# Altium footprint library gamma_gestionkicker.PcbLib: 19 footprints (part 1 of 2)
Each footprint in its own frame and in the unit in brackets; x right, y up, seen from the top. Pads: shape width x height; smd on the part's side, far side on the other; paste and mask are expansions set on the pad; w line width, h text height; cw(c..) or ccw(c..) is an arc to the next point about the centre after c.
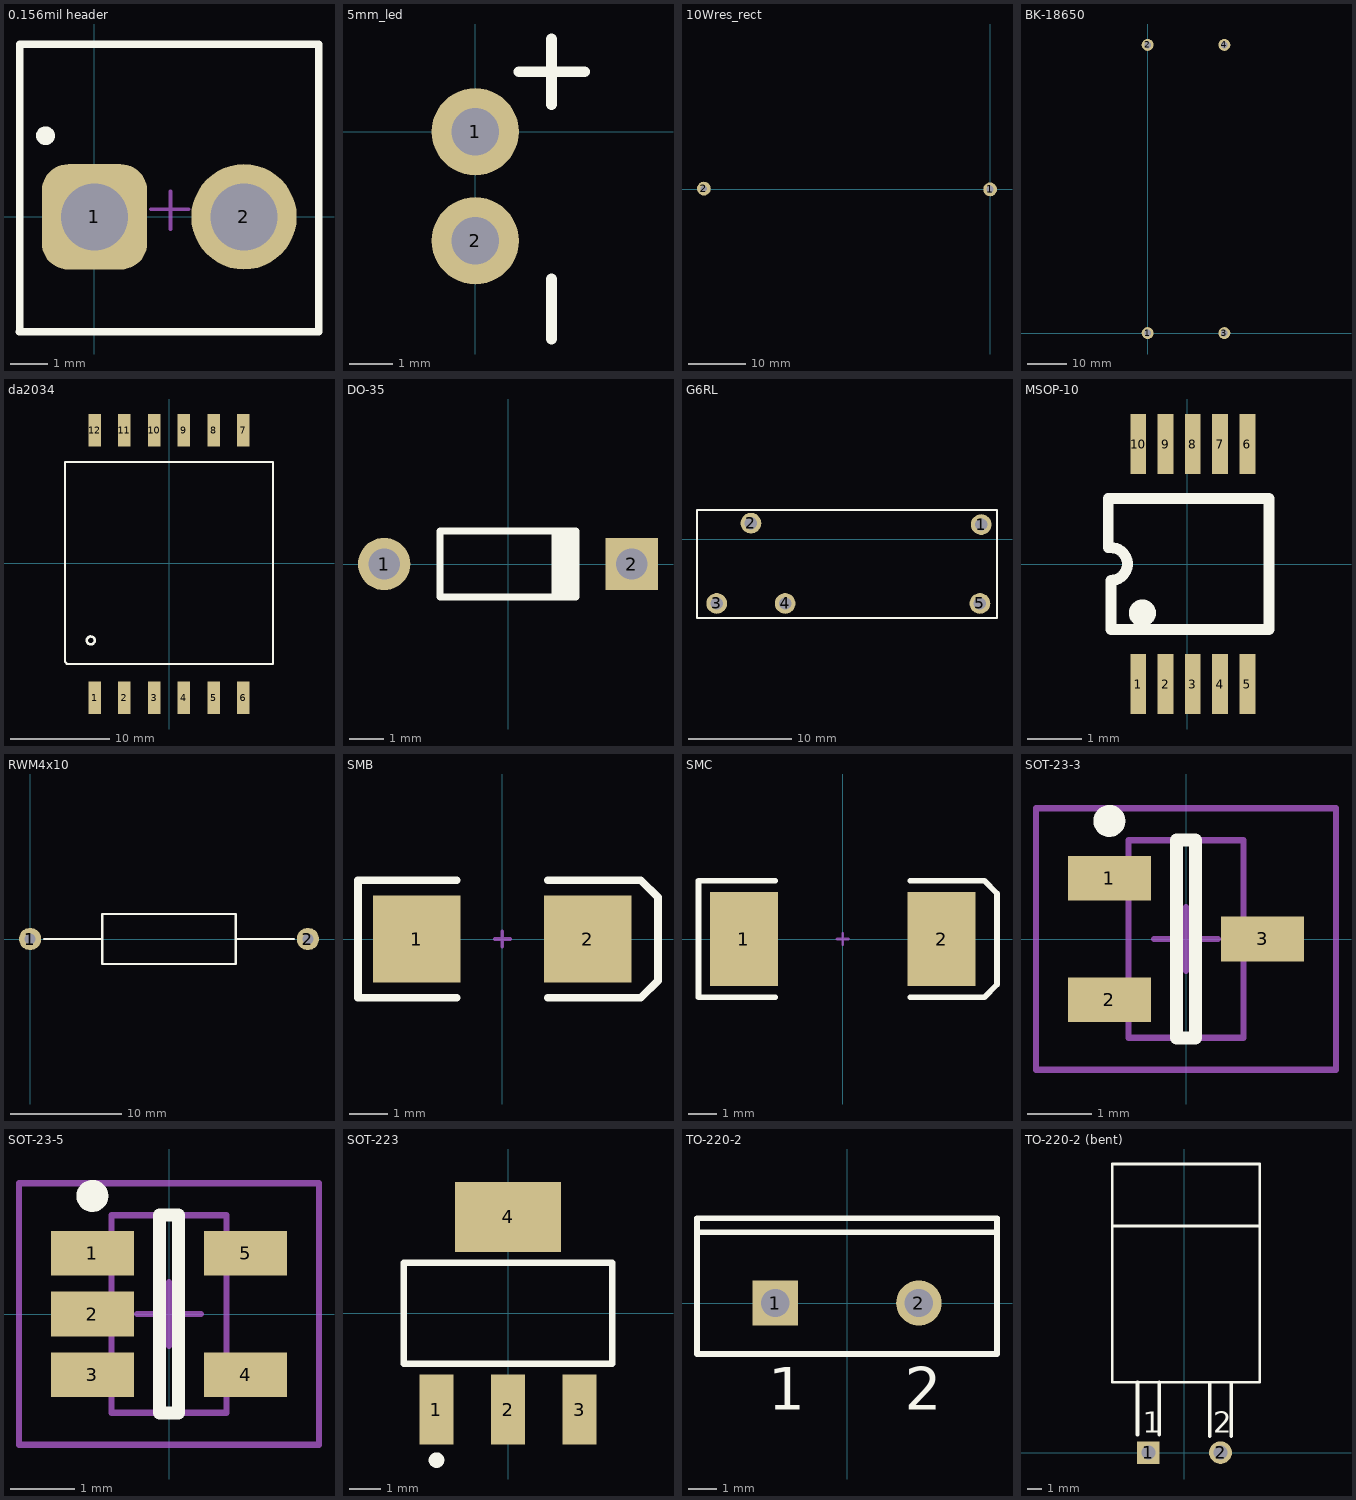
[diagram p0: the footprints below, top view; thin cyan lines are the x and y axes]

## 0.156mil header [mil] "SOIC, 4-Leads, Body 2,60x4,55mm, Pitch 1,27mm, IPC Medium Density"
height 409.45
pads (2):
  rrect50% 110x110 hole 70: 1(0,0)
  round 110 hole 70: 2(156,0)
Top Overlay:
  circle w9.84: c-51.18,84.65 r4.92
  lines w7.87: -78.49,-120.08 233.27,-120.08 ; -78,-120 -78,180 ; -77.76,180.12 234,180.12 234,-120
Mechanical 13:
  lines w3.94: -78.74,-120.08 -78.74,179.13 234.25,179.13 234.25,-120.08 -78.74,-120.08
Mechanical 15:
  lines w1.97: -78.74,-122.05 -78.74,179.13 233.27,179.13 233.27,-122.05 -78.74,-122.05
  lines w3.94: 59.06,7.87 98.43,7.87 ; 79.33,-12.8 79.33,26.57
3D body: height 425, standoff 20.08, extent -77.76,-120.08 234.25,181.1

## 5mm_led [mil]
pads (2):
  round 80 hole 43.31: 1(0,0) 2(0,-100)
Top Overlay:
  lines w10: 40,55 70,55 ; 70,-190 70,-135 ; 70,85 70,25 70,55 ; 100,55 70,55
3D body: height 206.85, standoff -324.65, extent -118.11,-168.1 118.11,48.43

## 10Wres_rect [mil]
height 393.7
pads (2):
  round 95 hole 50: 1(0,0)
  round 95 hole 45: 2(-1970,5)
3D body: height 376.53, standoff -102.36, extent -1988.93,-187.92 18.94,187.93

## BK-18650 [mm] "2cell holder for 18650 li-ion batt"
height 22
pads (4):
  round 3 hole 1.7: 1(0,0) 2(0,72.5) 3(19.3,0) 4(19.3,72.5)
3D body: height 21, standoff 0, extent -10.594,-1.651 30.406,74.349
3D body: height 24.37, standoff 6.17, extent 10.922,2.731 29.122,67.881
3D body: height 24.37, standoff 6.17, extent -8.929,2.858 9.271,68.008

## da2034 [mm] "Coilcraft Da2034-al"
height 11.43
pads (12):
  rect 1.27x3.3 smd: 1(-7.5,-13.6) 2(-4.5,-13.6) 3(-1.5,-13.6) 4(1.5,-13.6) 5(4.5,-13.6) 6(7.5,-13.6) 7(7.5,13.4) 8(4.5,13.4) 9(1.5,13.4) 10(-1.5,13.4) 11(-4.5,13.4) 12(-7.5,13.4)
Top Overlay:
  lines w0.2: -10.5,-10 -10.3,-10.2 10.5,-10.2 10.5,10.2 -10.5,10.2 -10.5,-10
  lines w0.25: -7.501,-7.782 ccw(c-7.9,-7.82) -7.5,-7.8
3D body: height 11.68, standoff 0.25, extent -10.585,-14.725 9.985,13.925

## DO-35 [mm] "Diode, Axial; Body 3.8 x 1.9 mm (LxDia. max), Lead Dia. 0.53 mm (max)"
height 1.9
pads (2):
  round 1.5 hole 0.9: 1(-3.55,0)
  rect 1.5x1.5 hole 0.9: 2(3.55,0)
Top Overlay:
  rectangle: 1.25,-0.95 2.05,0.95
  lines w0.2: 1.95,-0.95 -1.95,-0.95 -1.95,0.95 1.95,0.95

## G6RL [mm] "Omron SPDT relay"
height 11
pads (5):
  round 2 hole 1.2: 1(-9.906,1.397) 2(-32.131,1.524) 3(-35.433,-6.223) 4(-28.829,-6.223) 5(-10.033,-6.223)
Top Overlay:
  lines w0.2: -37.338,-7.62 -8.382,-7.62 -8.382,2.794 -37.338,2.794 -37.338,-7.62
3D body: height 12.3, standoff -3.2, extent -36.983,-7.413 -8.483,2.587

## MSOP-10 [mm] "Shrink Small Outline, MSOP; 10 Leads; Body Width 3 mm; Pitch 0.5 mm"
height 1.1
pads (10):
  rect 0.29x1.1 smd: 1(-0.9,-2.2) 2(-0.4,-2.2) 3(0.1,-2.2) 4(0.6,-2.2) 5(1.1,-2.2) 6(1.1,2.2) 7(0.6,2.2) 8(0.1,2.2) 9(-0.4,2.2) 10(-0.9,2.2)
Top Overlay:
  circle w0.25: c-0.825,-0.9 r0.125
  lines w0.2: -1.45,0.3 -1.45,1.2 1.5,1.2 1.5,-1.2 -1.4,-1.2 -1.4,-0.3 ccw(c-1.4,0) -1.4,0.3
3D body: height 1.15, standoff 0, extent -1.4,-2.45 1.6,2.45

## RWM4x10 [mm]
pads (2):
  round 2 hole 1: 1(0,0) 2(25,0)
Top Overlay:
  lines w0.2: 1.25,0 6.5,0 ; 18.5,0 23.75,0 ; 6.5,-2.25 6.5,2.25 18.5,2.25 18.5,-2.25 6.5,-2.25
3D body: height 2.5, standoff -0.5, extent 24.6,-0.41 25.4,0.39
3D body: height 2.5, standoff -0.5, extent -0.4,-0.406 0.4,0.394
3D body: height 2.65, standoff 1.85, extent 0,-0.403 25,0.394
3D body: height 4.5, standoff 0, extent 6.5,-2.25 18.5,2.244

## SMB [mm] "DO-214-AA/SMB; 2 C-Bend Leads; Body 5.3 x 3.6 mm, inc. leads (LxW)"
height 2.54
pads (2):
  rect 2.3x2.3 smd: 1(-2.25,0) 2(2.25,0)
Top Overlay:
  lines w0.2: -1.2,-1.55 -3.8,-1.55 -3.8,1.55 -1.2,1.55 ; 1.2,-1.55 3.65,-1.55 4.1,-1.1 4.1,1.1 3.65,1.55 1.2,1.55
Mechanical 1:
  lines w0.1: -0.2,0 0.2,0 ; 0,-0.2 0,0.2
3D body: height 2.5, standoff 0.2, extent -2.7,-1.8 2.7,1.8

## SMC [mm] "DO-214-AB/SMC; 2 C-Bend Leads; Body 7.9 x 5.9 mm, inc. leads (LxW)"
height 2.65
pads (2):
  rect 2.4x3.3 smd: 1(-3.475,0) 2(3.475,0)
Top Overlay:
  lines w0.2: -2.375,-2.05 -5.075,-2.05 -5.075,2.05 -2.375,2.05 ; 2.375,-2.05 4.975,-2.05 5.425,-1.6 5.425,1.6 4.975,2.055 ; 2.375,2.05 4.975,2.05
Mechanical 1:
  lines w0.1: -0.2,0 0.2,0 ; 0,-0.2 0,0.2
3D body: height 2.5, standoff 0.2, extent -2.7,-2 2.7,1.6

## SOT-23-3 [mm]
height 1.45
pads (3):
  rect 1.3x0.7 smd: 1(-1.2,0.95) 2(-1.2,-0.95) 3(1.2,0)
Top Overlay:
  circle w0.25: c-1.2,1.85 r0.125
  lines w0.2: -0.15,-1.55 0.15,-1.55 0.15,1.55 -0.15,1.55 -0.15,-1.55
Mechanical 13:
  lines w0.1: -0.9,-1.55 -0.9,1.55 0.9,1.55 0.9,-1.55 -0.9,-1.55
Mechanical 15:
  lines w0.1: -0.5,0 0.5,0 ; 0,-0.5 0,0.5 ; -2.35,-2.05 -2.35,2.05 2.35,2.05 2.35,-2.05 -2.35,-2.05
3D body: height 1.45, standoff 0, extent -0.9,-1.55 0.9,1.55

## SOT-23-5 [mm]
height 1.45
pads (5):
  rect 1.3x0.7 smd: 1(-1.2,0.95) 2(-1.2,0) 3(-1.2,-0.95) 4(1.2,-0.95) 5(1.2,0.95)
Top Overlay:
  circle w0.25: c-1.2,1.85 r0.125
  lines w0.2: -0.15,-1.55 0.15,-1.55 0.15,1.55 -0.15,1.55 -0.15,-1.55
Mechanical 13:
  lines w0.1: -0.9,-1.55 -0.9,1.55 0.9,1.55 0.9,-1.55 -0.9,-1.55
Mechanical 15:
  lines w0.1: -0.5,0 0.5,0 ; 0,-0.5 0,0.5 ; -2.35,-2.05 -2.35,2.05 2.35,2.05 2.35,-2.05 -2.35,-2.05
3D body: height 1.45, standoff 0, extent -0.9,-1.55 0.9,1.55

## SOT-223 [mm] "SOT-223/SC-73; 4 Leads; Body 6.7 x 7.3 mm, inc. leads (LxW max)"
height 1.7
pads (4):
  rect 1.1x2.25 smd: 1(-2.3,-3.1) 2(0,-3.1) 3(2.3,-3.1)
  rect 3.4x2.25 smd: 4(0,3.1)
Top Overlay:
  circle w0.25: c-2.3,-4.725 r0.125
  lines w0.2: -3.35,-1.625 3.35,-1.625 3.35,1.625 -3.35,1.625 -3.35,-1.625
3D body: height 1.39, standoff -0.26, extent -3.25,-3.373 3.25,3.627

## TO-220-2 [mm] "TO, Thru-Hole, Vertical, Heatsink Mounted; 3 In-Line Leads (1 Absent); Pitch 2.54 mm"
height 19.3
pads (2):
  rect 1.6x1.6 hole 1: 1(-2.54,0)
  round 1.6 hole 1: 2(2.54,0)
Top Overlay:
  lines w0.2: -5.3,2.5 5.3,2.5 ; -5.3,-1.8 5.3,-1.8 5.3,3 -5.3,3 -5.3,-1.8
  text "2" at 2.04,-3.775 h1.5
  text "1" at -2.79,-3.775 h1.5
3D body: height 19.5, standoff -2.7, extent -5,-1.651 5,2.849

## TO-220-2 (bent) [mm] "TO, Thru-Hole, Vertical, Heatsink Mounted; 3 In-Line Leads (1 Absent); Pitch 2.54 mm"
height 19.3
pads (2):
  rect 1.6x1.6 hole 1: 1(-2.54,0)
  round 1.6 hole 1: 2(2.54,0)
Top Overlay:
  lines w0.2: -5.08,15.962 5.3,15.962 ; -5.08,4.953 5.3,4.953 5.3,20.32 -5.08,20.32 -5.08,4.953
  lines w0.254: -3.302,1.27 -3.302,4.953 ; -1.778,1.27 -1.778,4.953 ; 1.778,1.143 1.778,4.826 ; 3.302,1.143 3.302,4.826
  text "2" at 2.032,1.397 h1.5
  text "1" at -2.921,1.397 h1.5
3D body: height 4.5, standoff -2.57, extent -4.793,-0.381 5.207,20.219